# EAGLE library part PCS3P258XX (library on-semiconductor)
Spread Spectrum Clock Generator for EMI Protection
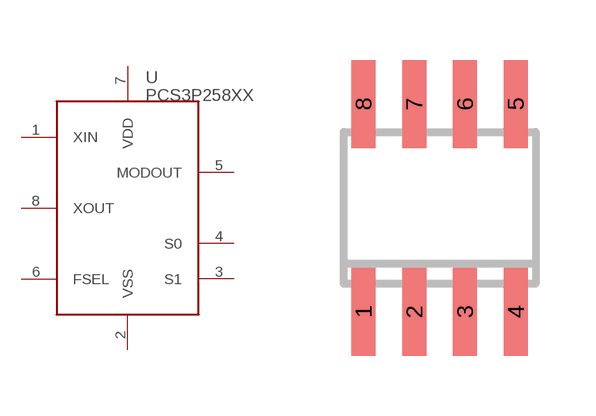
[diagram p9: symbol with the pads of SO08; footprint SO08]

Designator prefix -

## PCS3P258XX  [SO08]
1  XIN  in
2  VSS  pas
3  S1  pas
4  S0  pas
5  MODOUT  pas
6  FSEL  pas
7  VDD  pwr
8  XOUT  out

## Footprint SO08 (pad centres in mm)
Small Outline Package 8 NS Package M08A
smd 0.6 x 2.2: 1 -1.905,-2.6; 2 -0.635,-2.6; 3 0.635,-2.6; 4 1.905,-2.6; 5 1.905,2.6; 6 0.635,2.6; 7 -0.635,2.6; 8 -1.905,2.6